# EAGLE library part THS8135 (library MAX9812)
TI THS8135 TRIPLE 10-BIT, 240 MSPS VIDEO DAC WITH TRI-LEVEL SYNC AND VIDEO (ITU-R.BT601)?COMPLIANT FULL SCALE RANGE Features: Triple 10-Bit D/A Converters 240-MSPS Operation YPbPr/RGB Configurable Blanking Levels, Correctly Positioned for Either Full (0-1023) or Video (ITU-R.BT601) -Compliant Input Code Ranges Generic Triple DAC Mode for Non-Video Applications Direct Drive of Double-Terminated 75-? Load Into Standard Video Levels 3x10 Bit 4:4:4, 2x10 Bit 4:2:2 or 1x10 Bit 4:2:2 (ITU-R.BT656) Multiplexed YCbCr/GBR Input Data Formats Bi-Level (EIA) or Tri-Level (SMPTE) Sync Generation Integrated Sync-On-Green/Luminance or Sync-On-All Composite Sync Insertion Internal Voltage Reference Low-Power Operation From 3.3-V Analog and 1.8-V Digital Suply Levels Applications: High-Definition Television (HDTV) Set-Top Boxes/Receivers/Displays High-Resolution Image Processing Please send any comments to: messi@users.sourceforge.net
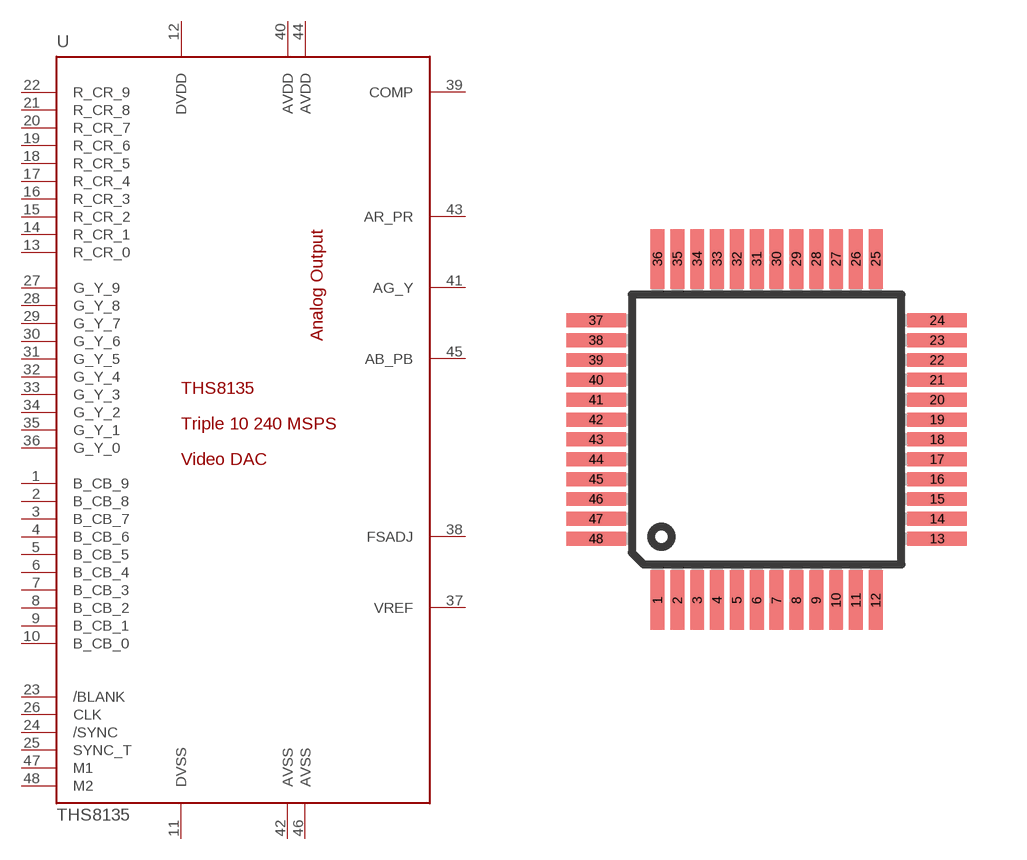
[diagram p39: symbol with the pads of TQFP48; footprint TQFP48]

Designator prefix U

## THS8135  [TQFP48]
1  B_CB_9  in
2  B_CB_8  in
3  B_CB_7  in
4  B_CB_6  in
5  B_CB_5  in
6  B_CB_4  in
7  B_CB_3  in
8  B_CB_2  in
9  B_CB_1  in
10  B_CB_0  in
11  DVSS  pwr
12  DVDD  pwr
13  R_CR_0  in
14  R_CR_1  in
15  R_CR_2  in
16  R_CR_3  in
17  R_CR_4  in
18  R_CR_5  in
19  R_CR_6  in
20  R_CR_7  in
21  R_CR_8  in
22  R_CR_9  in
23  /BLANK  in
24  /SYNC  in
25  SYNC_T  in
26  CLK  in
27  G_Y_9  in
28  G_Y_8  in
29  G_Y_7  in
30  G_Y_6  in
31  G_Y_5  in
32  G_Y_4  in
33  G_Y_3  in
34  G_Y_2  in
35  G_Y_1  in
36  G_Y_0  in
37  VREF  out
38  FSADJ  in
39  COMP  out
40  AVDD  pwr
41  AG_Y  out
42  AVSS  pwr
43  AR_PR  out
44  AVDD  pwr
45  AB_PB  out
46  AVSS  pwr
47  M1  in
48  M2  in

## Footprint TQFP48 (pad centres in mm)
THIN QUAD FLAT PACK
smd 0.35 x 1.5: 1 -2.75,-4.25; 2 -2.25,-4.25; 3 -1.75,-4.25; 4 -1.25,-4.25; 5 -0.75,-4.25; 6 -0.25,-4.25; 7 0.25,-4.25; 8 0.75,-4.25; 9 1.25,-4.25; 10 1.75,-4.25; 11 2.25,-4.25; 12 2.75,-4.25; 25 2.75,4.35; 26 2.25,4.35; 27 1.75,4.35; 28 1.25,4.35; 29 0.75,4.35; 30 0.25,4.35; 31 -0.25,4.35; 32 -0.75,4.35; 33 -1.25,4.35; 34 -1.75,4.35; 35 -2.25,4.35; 36 -2.75,4.35
smd 1.5 x 0.35: 13 4.3,-2.7; 14 4.3,-2.2; 15 4.3,-1.7; 16 4.3,-1.2; 17 4.3,-0.7; 18 4.3,-0.2; 19 4.3,0.3; 20 4.3,0.8; 21 4.3,1.3; 22 4.3,1.8; 23 4.3,2.3; 24 4.3,2.8; 37 -4.3,2.8; 38 -4.3,2.3; 39 -4.3,1.8; 40 -4.3,1.3; 41 -4.3,0.8; 42 -4.3,0.3; 43 -4.3,-0.2; 44 -4.3,-0.7; 45 -4.3,-1.2; 46 -4.3,-1.7; 47 -4.3,-2.2; 48 -4.3,-2.7